# EAGLE library part 93LC56B-SOT23-6 (library DSDEagleLibrary)
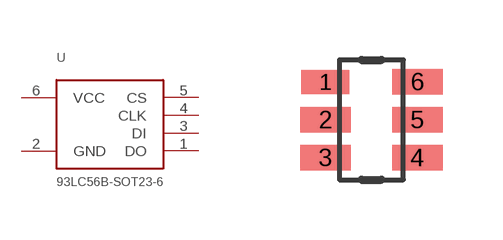
[diagram p58: symbol with the pads of SOT23-6L; footprint SOT23-6L]

Designator prefix U

## 93LC56B-SOT23-6  [SOT23-6L]
1  DO
2  GND
3  DI
4  CLK
5  CS
6  VCC

## Footprint SOT23-6L (pad centres in mm)
smd 1.2 x 0.6: 1 -1.15,0.95
smd 1.27 x 0.635: 2 -1.15,0; 3 -1.15,-0.95; 4 1.15,-0.95; 5 1.15,0; 6 1.15,0.95